# Altium schematic symbol library MountingHoles.SchLib: 1 symbol
Pins are listed as number, name and electrical type; pins without a type are passive.

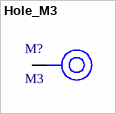
[diagram p0: symbol Hole_M3]

## Hole_M3
designator M?, comment M3
Mounting hole 3.2mm diameter
footprint PCBComponent_1
pins: 1